# Altium schematic symbol library FPGA_CologneChip_GateMate.SchLib: 1 symbol
Pins are listed as number, name and electrical type; pins without a type are passive.

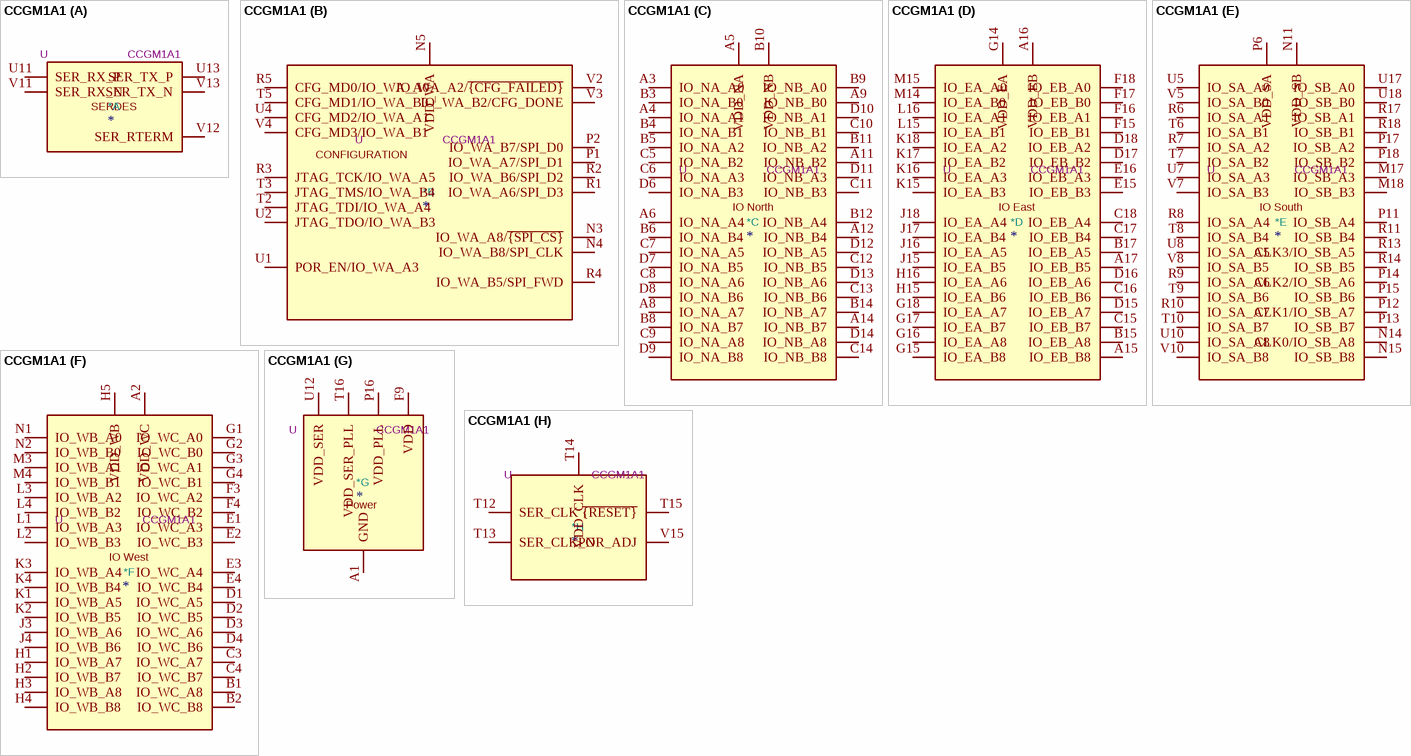
[diagram p0: symbol CCGM1A1]

## CCGM1A1
designator *  value CCGM1A1  Reference: U
ki_keywords: GateMate FPGA; ki_description: Cologne Chip GateMate FPGA, BGA-324; ki_fp_filters: BGA*15.0x15.0mm*Layout18x18*P0.8mm*; Footprint: Package_BGA:BGA-324_15.0x15.0mm_Layout18x18_P0.8mm_Ball0.45mm_Pad0.4mm_NSMD; Datasheet: https://colognechip.com/docs/ds1001-gatemate1-datasheet-2022-05.pdf
part A pins: U11 SER_RX_P, U13 SER_TX_P, V11 SER_RX_N, V12 SER_RTERM, V13 SER_TX_N
part B pins: N3 IO_WA_A8/~{{SPI_CS}}, N4 IO_WA_B8/SPI_CLK, N5 VDD_WA, P1 IO_WA_A7/SPI_D1, P2 IO_WA_B7/SPI_D0, P3 VDD_WA hidden, P5 VDD_WA hidden, R1 IO_WA_A6/SPI_D3, R2 IO_WA_B6/SPI_D2, R3 JTAG_TCK/IO_WA_A5, R4 IO_WA_B5/SPI_FWD, R5 CFG_MD0/IO_WA_A0, T1 VDD_WA hidden, T2 JTAG_TDI/IO_WA_A4, T3 JTAG_TMS/IO_WA_B4, T5 CFG_MD1/IO_WA_B0, U1 POR_EN/IO_WA_A3, U2 JTAG_TDO/IO_WA_B3, U3 VDD_WA hidden, U4 CFG_MD2/IO_WA_A1, V2 IO_WA_A2/~{{CFG_FAILED}}, V3 IO_WA_B2/CFG_DONE, V4 CFG_MD3/IO_WA_B1
part C pins: A3 IO_NA_A0, A4 IO_NA_A1, A5 VDD_NA, A6 IO_NA_A4, A8 IO_NA_A7, A9 IO_NB_B0, A11 IO_NB_B2, A12 IO_NB_B4, A14 IO_NB_B7, B3 IO_NA_B0, B4 IO_NA_B1, B5 IO_NA_A2, B6 IO_NA_B4, B7 VDD_NA hidden, B8 IO_NA_B7, B9 IO_NB_A0, B10 VDD_NB, B11 IO_NB_A2, B12 IO_NB_A4, B13 VDD_NB hidden, B14 IO_NB_A7, C5 IO_NA_B2, C6 IO_NA_A3, C7 IO_NA_A5, C8 IO_NA_A6, C9 IO_NA_A8, C10 IO_NB_B1, C11 IO_NB_B3, C12 IO_NB_B5, C13 IO_NB_B6, C14 IO_NB_B8, D6 IO_NA_B3, D7 IO_NA_B5, D8 IO_NA_B6, D9 IO_NA_B8, D10 IO_NB_A1, D11 IO_NB_A3, D12 IO_NB_A5, D13 IO_NB_A6, D14 IO_NB_A8, E6 VDD_NA hidden, E8 VDD_NA hidden, E10 VDD_NB hidden, E12 VDD_NB hidden, F7 VDD_NA hidden, F11 VDD_NB hidden
part D pins: A15 IO_EB_B8, A16 VDD_EB, A17 IO_EB_B5, B15 IO_EB_A8, B17 IO_EB_A5, B18 VDD_EB hidden, C15 IO_EB_B7, C16 IO_EB_B6, C17 IO_EB_B4, C18 IO_EB_A4, D15 IO_EB_A7, D16 IO_EB_A6, D17 IO_EB_B2, D18 IO_EB_A2, E14 VDD_EB hidden, E15 IO_EB_B3, E16 IO_EB_A3, E17 VDD_EB hidden, F13 VDD_EB hidden, F15 IO_EB_B1, F16 IO_EB_A1, F17 IO_EB_B0, F18 IO_EB_A0, G14 VDD_EA, G15 IO_EA_B8, G16 IO_EA_A8, G17 IO_EA_B7, G18 IO_EA_A7, H15 IO_EA_B6, H16 IO_EA_A6, H17 VDD_EA hidden, J14 VDD_EA hidden, J15 IO_EA_B5, J16 IO_EA_A5, J17 IO_EA_B4, J18 IO_EA_A4, K15 IO_EA_B3, K16 IO_EA_A3, K17 IO_EA_B2, K18 IO_EA_A2, L14 VDD_EA hidden, L15 IO_EA_B1, L16 IO_EA_A1, L17 VDD_EA hidden, M14 IO_EA_B0, M15 IO_EA_A0
part E pins: M17 IO_SB_A3, M18 IO_SB_B3, N11 VDD_SB, N13 VDD_SB hidden, N14 CLK0/IO_SB_A8, N15 IO_SB_B8, N18 VDD_SB hidden, P6 VDD_SA, P8 VDD_SA hidden, P10 VDD_SA hidden, P11 IO_SB_A4, P12 CLK1/IO_SB_A7, P13 IO_SB_B7, P14 CLK2/IO_SB_A6, P15 IO_SB_B6, P17 IO_SB_A2, P18 IO_SB_B2, R6 IO_SA_A1, R7 IO_SA_A2, R8 IO_SA_A4, R9 IO_SA_A6, R10 IO_SA_A7, R11 IO_SB_B4, R13 CLK3/IO_SB_A5, R14 IO_SB_B5, R15 VDD_SB hidden, R17 IO_SB_A1, R18 IO_SB_B1, T6 IO_SA_B1, T7 IO_SA_B2, T8 IO_SA_B4, T9 IO_SA_B6, T10 IO_SA_B7, T18 VDD_SB hidden, U5 IO_SA_A0, U6 VDD_SA hidden, U7 IO_SA_A3, U8 IO_SA_A5, U9 VDD_SA hidden, U10 IO_SA_A8, U17 IO_SB_A0, U18 IO_SB_B0, V5 IO_SA_B0, V7 IO_SA_B3, V8 IO_SA_B5, V10 IO_SA_B8
part F pins: A2 VDD_WC, B1 IO_WC_A8, B2 IO_WC_B8, C2 VDD_WC hidden, C3 IO_WC_A7, C4 IO_WC_B7, D1 IO_WC_A5, D2 IO_WC_B5, D3 IO_WC_A6, D4 IO_WC_B6, D5 VDD_WC hidden, E1 IO_WC_A3, E2 IO_WC_B3, E3 IO_WC_A4, E4 IO_WC_B4, F2 VDD_WC hidden, F3 IO_WC_A2, F4 IO_WC_B2, F5 VDD_WC hidden, G1 IO_WC_A0, G2 IO_WC_B0, G3 IO_WC_A1, G4 IO_WC_B1, H1 IO_WB_A7, H2 IO_WB_B7, H3 IO_WB_A8, H4 IO_WB_B8, H5 VDD_WB, J2 VDD_WB hidden, J3 IO_WB_A6, J4 IO_WB_B6, K1 IO_WB_A5, K2 IO_WB_B5, K3 IO_WB_A4, K4 IO_WB_B4, K5 VDD_WB hidden, L1 IO_WB_A3, L2 IO_WB_B3, L3 IO_WB_A2, L4 IO_WB_B2, M2 VDD_WB hidden, M3 IO_WB_A1, M4 IO_WB_B1, M5 VDD_WB hidden, N1 IO_WB_A0, N2 IO_WB_B0
part G pins: A1 GND, A7 GND hidden, A10 GND hidden, A13 GND hidden, A18 GND hidden, B16 GND hidden, C1 GND hidden, E5 GND hidden, E7 GND hidden, E9 GND hidden, E11 GND hidden, E13 GND hidden, E18 GND hidden, F1 GND hidden, F6 GND hidden, F8 GND hidden, F9 VDD, F10 GND hidden, F12 GND hidden, F14 GND hidden, G5 GND hidden, G6 VDD hidden, G7 GND hidden, G8 VDD hidden, G9 GND hidden, G10 VDD hidden, G11 GND hidden, G12 VDD hidden, G13 GND hidden, H6 GND hidden, H7 VDD hidden, H8 GND hidden, H9 VDD hidden, H10 GND hidden, H11 VDD hidden, H12 GND hidden, H13 VDD hidden, H14 GND hidden, H18 GND hidden, J1 GND hidden, J5 GND hidden, J6 VDD hidden, J7 GND hidden, J8 VDD hidden, J9 GND hidden, J10 VDD hidden, J11 GND hidden, J12 VDD hidden, J13 GND hidden, K6 GND hidden, K7 VDD hidden, K8 GND hidden, K9 VDD hidden, K10 GND hidden, K11 VDD hidden, K12 GND hidden, K13 VDD hidden, K14 GND hidden, L5 GND hidden, L6 VDD hidden, L7 GND hidden, L8 VDD hidden, L9 GND hidden, L10 VDD hidden, L11 GND hidden, L12 VDD hidden, L13 GND hidden, L18 GND hidden, M1 GND hidden, M6 GND hidden, M7 VDD hidden, M8 GND hidden, M9 VDD hidden, M10 GND hidden, M11 VDD hidden, M12 GND hidden, M13 VDD hidden, M16 GND hidden, N6 VDD hidden, N7 GND hidden, N8 VDD hidden, N9 GND hidden, N10 VDD hidden, N12 GND hidden, N16 NC hidden, N17 GND hidden, P4 GND hidden, P7 GND hidden, P9 GND hidden, P16 VDD_PLL, R12 GND hidden, R16 GND hidden, T4 GND hidden, T11 GND hidden, T16 VDD_SER_PLL, T17 GND hidden, U12 VDD_SER, U14 GND hidden, U15 GND hidden, U16 GND hidden, V1 GND hidden, V6 GND hidden, V9 GND hidden, V14 GND hidden, V16 GND hidden, V17 VDD_SER hidden, V18 GND hidden
part H pins: T12 SER_CLK, T13 SER_CLK_N, T14 VDD_CLK, T15 ~{{RESET}}, V15 POR_ADJ
part A text: SERDES
part B text: CONFIGURATION
part C text: IO North
part D text: IO East
part E text: IO South
part F text: IO West
part G text: Power